# Altium schematic symbol library MMBT5551.SchLib: 1 symbol
Pins are listed as number, name and electrical type; pins without a type are passive.

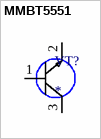
[diagram p0: symbol MMBT5551]

## MMBT5551
designator VT?
footprint SOT96P237X111-3N
pins: 1 B, 2 E, 3 C